# Altium schematic symbol library Fotootpornik.SchLib: 1 symbol
Pins are listed as number, name and electrical type; pins without a type are passive.

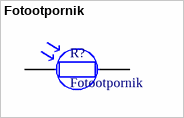
[diagram p0: symbol Fotootpornik]

## Fotootpornik
designator R?
pins: 1, 2